# Altium footprint library Components - 30.03.22 - 09.47.PcbLib: 1 footprints
Each footprint in its own frame and in the unit in brackets; x right, y up, seen from the top. Pads: shape width x height; smd on the part's side, far side on the other; paste and mask are expansions set on the pad; w line width, h text height; cw(c..) or ccw(c..) is an arc to the next point about the centre after c.
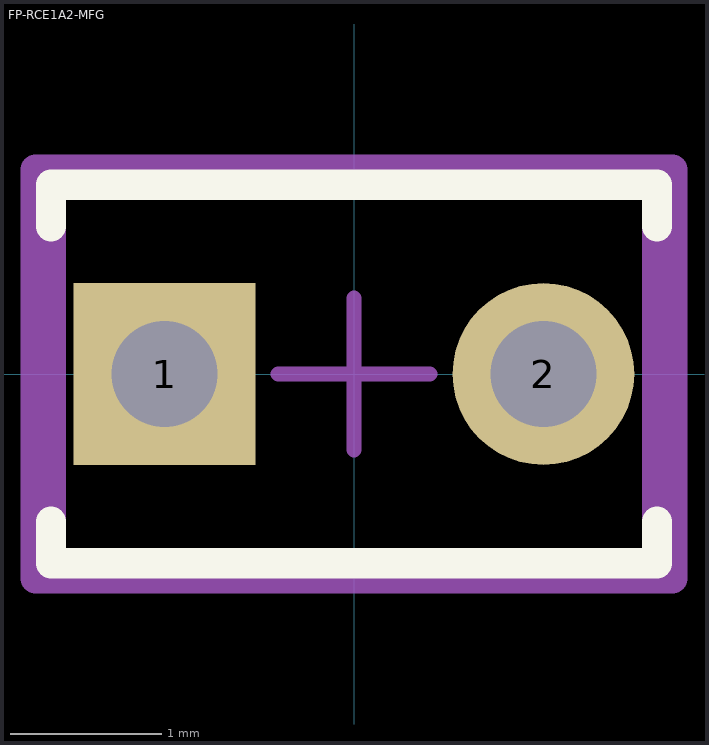
[diagram p0: the footprint, top view; thin cyan lines are the x and y axes]

## FP-RCE1A2-MFG [mm]
pads (2):
  rect 1.2x1.2 hole 0.7 paste-1000 mask+0: 1(-1.25,0)
  round 1.2 hole 0.7 paste-1000 mask+0: 2(1.25,0)
Top Overlay:
  lines w0.2: -2,-0.975 -2,-1.25 2,-1.25 2,-0.975 ; -2,0.975 -2,1.25 2,1.25 2,0.975
Top Assembly:
  lines w0.2: -2.1,-1.35 2.1,-1.35 2.1,1.35 -2.1,1.35 -2.1,-1.35
  text ".Designator" at 0.254,1.712 h1
Top 3D Body:
  lines w0.2: -2,-1.25 2,-1.25 2,1.25 -2,1.25 -2,-1.25
Top Courtyard:
  lines w0.2: -2.1,-1.35 2.1,-1.35 2.1,1.35 -2.1,1.35 -2.1,-1.35
Top Component Center:
  lines w0.1: -0.5,0 0.5,0 ; 0,-0.5 0,0.5
3D body "Cap_Murata_RCER71E684K1DBH03A_eec.STEP": height 0.25, standoff 0, extent -2.1,-1.35 2.1,1.35